# EAGLE library part 74*595 (library icmi-ics)
74*595 8-Bit Shift Register The 74*595 is an 8-BIT SHIFT REGISTERS/OUTPUT LATCHES (3-STATE). This device contains an 8-bit serial-in, parallel-out shift register that feeds an 8-bit D-type storage register. The storage register has 8 3-STATE outputs. Separate clocks are provided for both the shift register and the storage register. The shift register has a direct-overriding clear, serial input, and serial output (standard) pins for cascading. Both the shift register and storage register use positive-edge triggered clocks. If both clocks are connected together, the shift register state will always be one clock pulse ahead of the storage register. All inputs are equipped with protection circuits against static discharge and transient excess voltage.
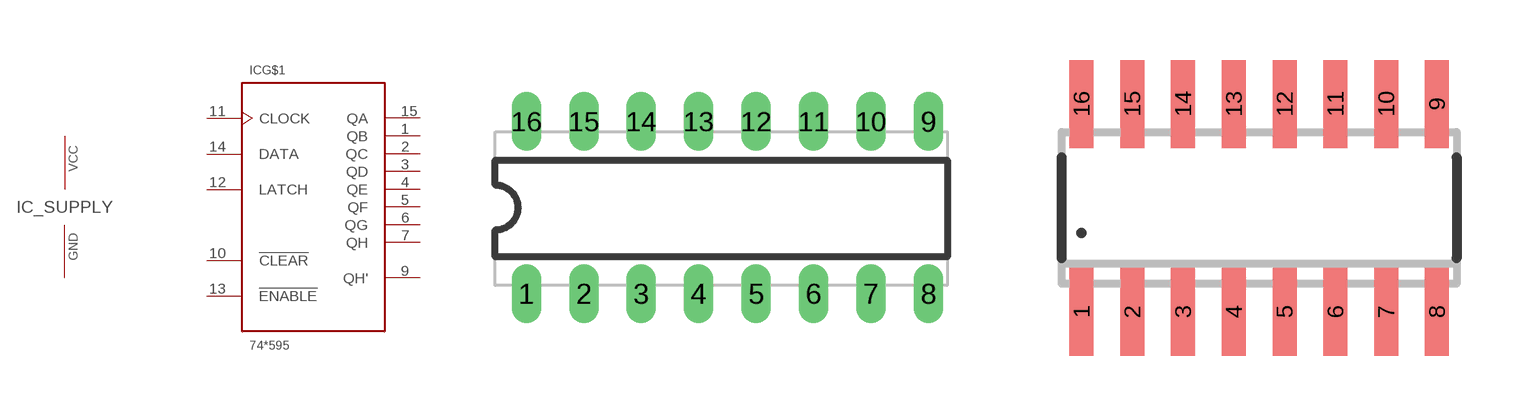
[diagram p2: symbol with the pads of DIP-16; footprints DIP-16, SO-16]

Designator prefix IC; gates G$1=74HC595 _SUPPLY=1PWR_1GND

## 74595-DIP16  [DIP-16]
1  G$1:QB  out
2  G$1:QC  out
3  G$1:QD  out
4  G$1:QE  out
5  G$1:QF  out
6  G$1:QG  out
7  G$1:QH  out
8  _SUPPLY:GND  pwr
9  G$1:QH'  out
10  G$1:!CLEAR  in
11  G$1:CLOCK  in
12  G$1:LATCH  in
13  G$1:!ENABLE  in
14  G$1:DATA  in
15  G$1:QA  out
16  _SUPPLY:VCC  pwr

## 74595-SO16  [SO-16]
Pads as for DIP-16

## Footprint DIP-16 (pad centres in mm)
DIP-16
drill 0.8 long: 1 -8.89,-3.81; 2 -6.35,-3.81; 3 -3.81,-3.81; 4 -1.27,-3.81; 5 1.27,-3.81; 6 3.81,-3.81; 7 6.35,-3.81; 8 8.89,-3.81; 9 8.89,3.81; 10 6.35,3.81; 11 3.81,3.81; 12 1.27,3.81; 13 -1.27,3.81; 14 -3.81,3.81; 15 -6.35,3.81; 16 -8.89,3.81

## Footprint SO-16 (pad centres in mm)
SMALL OUTLINE INTEGRATED CIRCUIT 16 PIN IC size 3.9mm x 9.9mm
smd 0.6 x 2.2: 1 -4.445,-2.6; 2 -3.175,-2.6; 3 -1.905,-2.6; 4 -0.635,-2.6; 5 0.635,-2.6; 6 1.905,-2.6; 7 3.175,-2.6; 8 4.445,-2.6; 9 4.445,2.6; 10 3.175,2.6; 11 1.905,2.6; 12 0.635,2.6; 13 -0.635,2.6; 14 -1.905,2.6; 15 -3.175,2.6; 16 -4.445,2.6